# EAGLE library part CJ125 (library CJ125)
The integrated circuit CJ125 is a control and amplifier circuit for a wide range λ-Sensor LSU4.x for the continuous regulation of λ in combination with the sensor in the range of λ = 0.65... • (air).
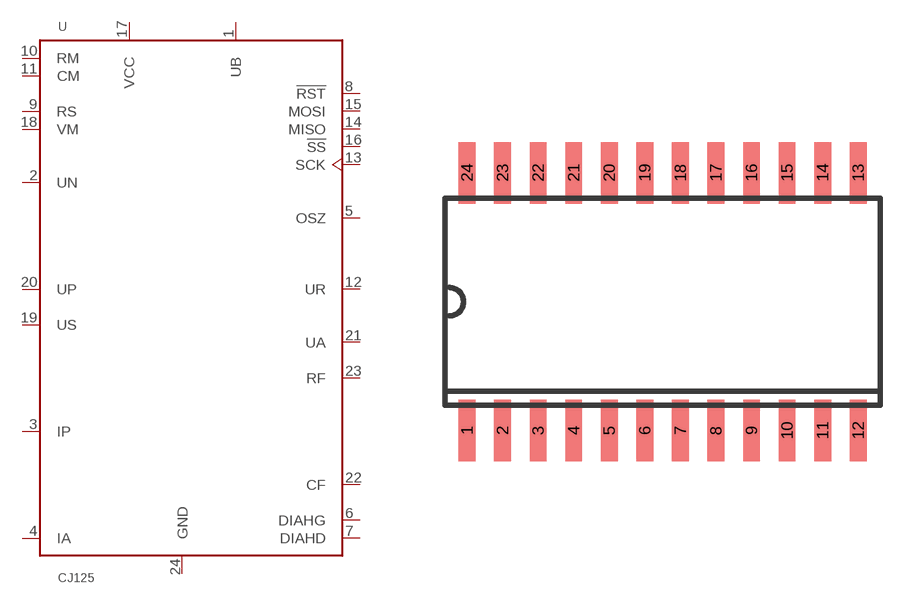
[diagram p0: symbol with the pads of SO24W; footprint SO24W]

Designator prefix U

## CJ125SO24W  [SO24W]
1  UB  pas
2  UN  pas
3  IP  pas
4  IA  pas
5  OSZ  pas
6  DIAHG  in
7  DIAHD  in
8  !RST  in
9  RS  pas
10  RM  pas
11  CM  pas
12  UR  pas
13  SCK  out
14  MISO  out
15  MOSI  in
16  !SS  out
17  VCC  pas
18  VM  pas
19  US  pas
20  UP  pas
21  UA  pas
22  CF  pas
23  RF  pas
24  GND  pas

## Footprint SO24W (pad centres in mm)
SMALL OUTLINE INTEGRATED CIRCUIT wide body 7.5 mm/JEDEC MO-119AA
smd 0.6 x 2.2: 1 -6.985,-4.6; 2 -5.715,-4.6; 3 -4.445,-4.6; 4 -3.175,-4.6; 5 -1.905,-4.6; 6 -0.635,-4.6; 7 0.635,-4.6; 8 1.905,-4.6; 9 3.175,-4.6; 10 4.445,-4.6; 11 5.715,-4.6; 12 6.985,-4.6; 13 6.985,4.6; 14 5.715,4.6; 15 4.445,4.6; 16 3.175,4.6; 17 1.905,4.6; 18 0.635,4.6; 19 -0.635,4.6; 20 -1.905,4.6; 21 -3.175,4.6; 22 -4.445,4.6; 23 -5.715,4.6; 24 -6.985,4.6